# Altium schematic symbol library Lab7_altium.SchLib: 8 symbols
Pins are listed as number, name and electrical type; pins without a type are passive.

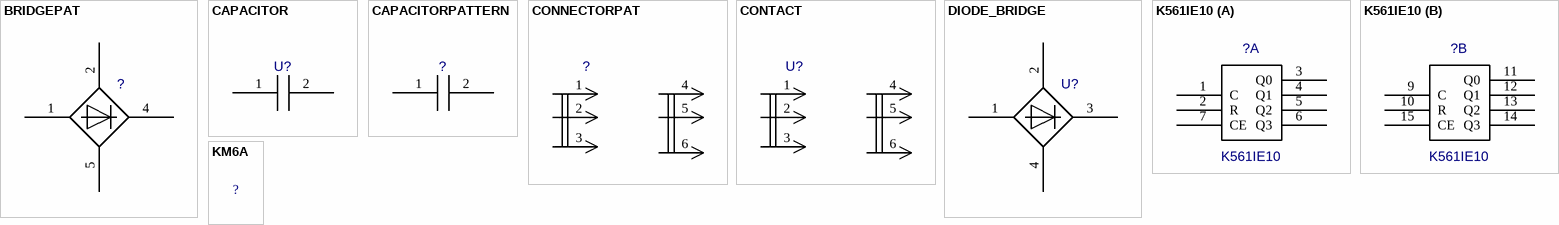
[diagram p0: symbols BRIDGEPAT to KM6A]

## BRIDGEPAT
designator ?  (value not drawn)
Value: *
footprint BRIDGEPAT
pins: 1, 2, 3 GND (power) hidden, 4 3, 5 4, 6 VCC (power) hidden

## CAPACITOR
designator U?  (value not drawn)
Value: *
pins: 1 0, 2 1

## CAPACITORPATTERN
designator ?  (value not drawn)
Value: *
footprint CAPACITORPATTERN
pins: 1 0, 2 1

## CONNECTORPAT
designator ?  (value not drawn)
Value: *
footprint CONNECTORPAT
pins: 1, 2, 3, 4, 5, 6

## CONTACT
designator U?  (value not drawn)
Value: *
pins: 1, 2, 3, 4, 5, 6

## DIODE_BRIDGE
designator U?  (value not drawn)
Value: *
pins: 1, 2, 3, 4

## K561IE10
designator ?
Value: *
footprint PATMICROSCHEME
pins on every part: 8 GND (power) hidden, 16 Vc (power) hidden
part A pins: 1 C, 2 R, 3 Q0, 4 Q1, 5 Q2, 6 Q3, 7 CE
part B pins: 9 C, 10 R, 11 Q0, 12 Q1, 13 Q2, 14 Q3, 15 CE

## KM6A
designator ?  (value not drawn)
Value: *
footprint CAPACITORPATTERN